# Altium schematic symbol library Schlib1.SchLib: 44 symbols (part 3 of 4)
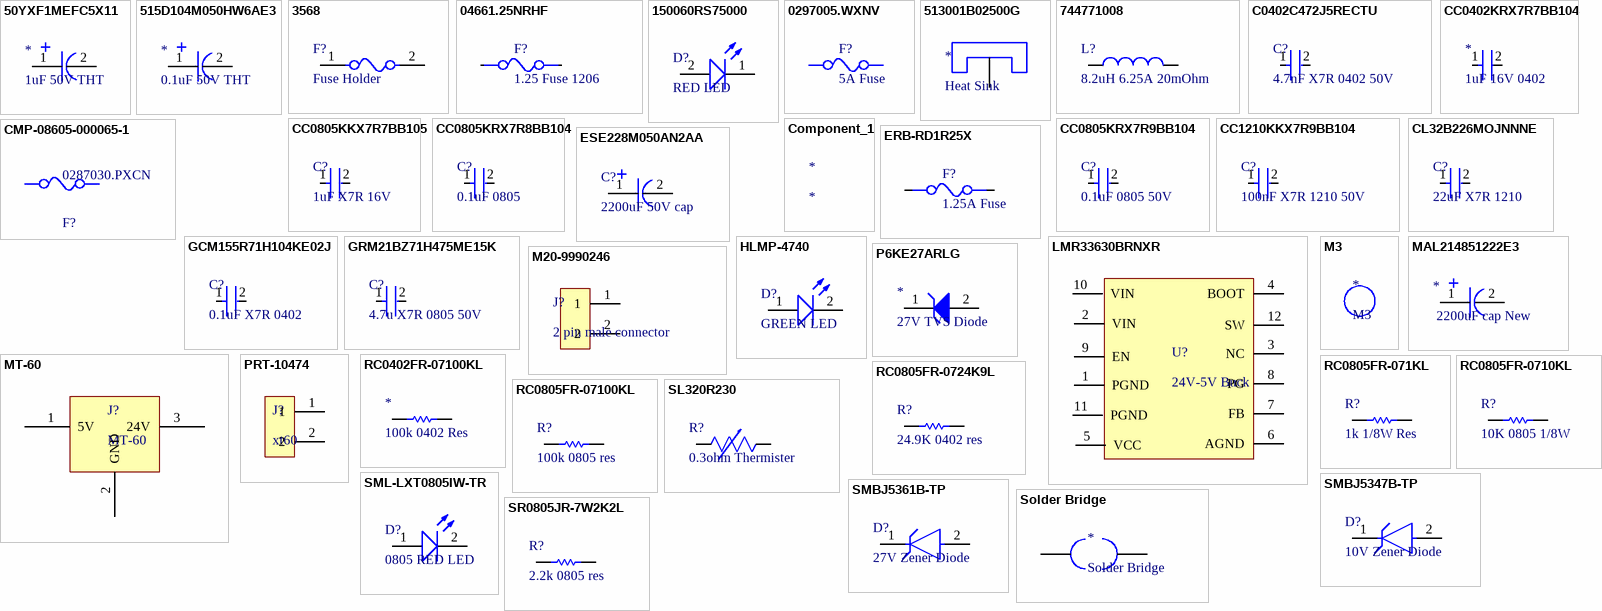
[diagram p3: symbols 50YXF1MEFC5X11 to SR0805JR-7W2K2L]

## MAL214851222E3
designator *, comment 2200uF cap New
Radial Can ALUMINUM ELECTROLYTIC CAPACITOR 148RUS 50V 2200muF ±20% 0.630Dia 16.00mm; Manufacturer: Vishay; Manufacturer Part Number: MAL214851222E3; Value: 2.2mF; Impedance: 39mΩ; Lead Diameter: 800µm; Leakage Current: 1.1mA; Life (Hours): 3000hours; Polarity: Polar; Ripple Current: 1.52A; Supplier: Avnet; Supplier Part Number: 40Y2495; RoHS: Compliant; Category: Aluminum Electrolytic Capacitors; Stock: 25; Pricing: 1=5.04, 10=3.42, 25=3.22, 50=3.02, 100=2.82 (USD); Case/Package: Radial; China RoHS: Compliant; Diameter: 16mm; Height: 31mm; Height - Seated (Max): 33.5026mm; Lead Pitch: 7.5mm; Length: 31mm; Lifecycle Status: Production; Max Operating Temperature: 105°C; Min Operating Temperature: -40°C; Mounting Technology: Through Hole; Number of Terminals: 2; Packaging: Bulk; Radiation Hardening: No; REACH SVHC: Yes; Terminal Pitch: 7.5mm; Termination: Radial; Tolerance: 20%; Voltage Rating: 50V; Voltage Rating (DC): 50V; ComponentLink1URL: https://datasheet.octopart.com:443/MAL214851222E3-Vishay-datasheet-159617121.pdf?src-supplier=IHS; ComponentLink1Description: https://datasheet.octopart.com:443/MAL214851222E3-Vishay-datasheet-159617121.pdf?src-supplier=IHS; ComponentLink2URL: https://datasheet.octopart.com:443/MAL214851222E3-Vishay-datasheet-62320647.pdf?src-supplier=Farnell; ComponentLink2Description: https://datasheet.octopart.com:443/MAL214851222E3-Vishay-datasheet-62320647.pdf?src-supplier=Farnell; ComponentLink3URL: https://datasheet.octopart.com:443/MAL214851222E3-Vishay-datasheet-37143530.pdf?src-supplier=Newark; ComponentLink3Description: https://datasheet.octopart.com:443/MAL214851222E3-Vishay-datasheet-37143530.pdf?src-supplier=Newark; ComponentLink4URL: http://sigma.octopart.com:80/rohs_statement/Vishay-company-15.pdf?src-supplier=Compliance+Statements; ComponentLink4Description: http://sigma.octopart.com:80/rohs_statement/Vishay-company-15.pdf?src-supplier=Compliance+Statements; LCSC Part No: C1601121
footprint Capacitor through hole
pins: 1, 2

## MT-60
designator J?
3pinPlug Power Connectors RoHS; LCSC part #: C99176
footprint MT-60
pins: 1 5V, 2 GND, 3 24V

## P6KE27ARLG
designator *, comment 27V TVS Diode
600 Watt SUR40 Transient Voltage Suppressor, 27 V, Unidirectional; Manufacturer: onsemi; Manufacturer Part Number: P6KE27ARLG; Breakdown Voltage: 27.05V; Clamping Voltage: 37.5V; Element Configuration: Single; Leakage Current: 5µA; Max Breakdown Voltage: 28.4V; Max Power Dissipation: 5W; Max Surge Current: 16A; Min Breakdown Voltage: 25.7V; Number of Channels: 1; Operating Supply Voltage: 23.1V; Peak Pulse Power: 600W; Power Line Protection: No; Test Current: 1mA; Supplier: Bison Technologies; Supplier Part Number: P6KE27ARLG-158866; RoHS: Compliant; Category: TVS Diodes; Stock: 5900; Pricing: 100=0.06, 1000=0.06, 10000=0.06 (USD); Case/Package: Axial; China RoHS: Non-Compliant; Composition: Zener; Contact Plating: Tin; Country of Origin: Mainland China; Direction: Unidirectional; Export Control Classification Number (ECCN) Code: EAR99; Harmonized Tariff Schedule (HTS) Code: 8541.10.00.50; Introduction Date: 1999-01-01; Lead Free: Lead Free; Max Operating Temperature: 150°C; Max Reverse Leakage Current: 5µA; Min Operating Temperature: -55°C; Number of Elements: 1; Pins: 2; Number of Terminals: 2; Number of Unidirectional Channels: 1; Packaging: Tape and Reel; Peak Pulse Current: 16A; Polarity: Unidirectional; Power Dissipation: 600W; Radiation Hardening: No; REACH SVHC: No; Reverse Breakdown Voltage: 25.7V; Reverse Standoff Voltage: 23.1V; Termination: Axial; ComponentLink1URL: https://datasheet.octopart.com:443/P6KE27ARLG-ON-Semiconductor-datasheet-8361193.pdf?src-supplier=IHS; ComponentLink1Description: https://datasheet.octopart.com:443/P6KE27ARLG-ON-Semiconductor-datasheet-8361193.pdf?src-supplier=IHS; ComponentLink2URL: https://datasheet.octopart.com:443/P6KE27ARLG-ON-Semiconductor-datasheet-5320614.pdf?src-supplier=onsemi; ComponentLink2Description: https://datasheet.octopart.com:443/P6KE27ARLG-ON-Semiconductor-datasheet-5320614.pdf?src-supplier=onsemi; ComponentLink3URL: https://datasheet.octopart.com:443/P6KE27ARLG-onsemi-datasheet-79626349.pdf?src-supplier=Farnell; ComponentLink3Description: https://datasheet.octopart.com:443/P6KE27ARLG-onsemi-datasheet-79626349.pdf?src-supplier=Farnell; ComponentLink4URL: http://sigma.octopart.com:80/reach_statement/ON-Semiconductor-company-79.pdf?src-supplier=Compliance+Statements; ComponentLink4Description: http://sigma.octopart.com:80/reach_statement/ON-Semiconductor-company-79.pdf?src-supplier=Compliance+Statements; ComponentLink5URL: https://octopart.com:443/opatz8j6/c1?t=2cJTaBfKdbaYfiIibkn32kFJN2rkQAxk7M-zdmCFLNYhDS4Q_M0VQkaOAo5Ijtsf6TEss0vlvxYVSuDQTRZP4OvQV2pXsbQ98v0s9K6hdiFStXveO6nhAUnzDXp5xHxKIFKd8f_nnKbZC-l5hdBFgFSLLzjiWU1mRDFWwLSmSyFNQzmDyJ0WyQpSZN_85hCm8lhg27LncNlkqwz2W0BQiMb47LSU24ywtnWJBrffDSUFoIOy5DRvi26unpeOfRJUZq5vb6J1HvpVsqMMnuUvQDgpfylJ3jskX1SzE2wqL06L0laSWrQj0crcyI1tb60BYAje57qsLb2d2LwrmFq9ygYxyN3BPTigX2aIOQ&src-supplier=Compliance+Statements; ComponentLink5Description: https://octopart.com:443/opatz8j6/c1?t=2cJTaBfKdbaYfiIibkn32kFJN2rkQAxk7M-zdmCFLNYhDS4Q_M0VQkaOAo5Ijtsf6TEss0vlvxYVSuDQTRZP4OvQV2pXsbQ98v0s9K6hdiFStXveO6nhAUnzDXp5xHxKIFKd8f_nnKbZC-l5hdBFgFSLLzjiWU1mRDFWwLSmSyFNQzmDyJ0WyQpSZN_85hCm8lhg27LncNlkqwz2W0BQiMb47LSU24ywtnWJBrffDSUFoIOy5DRvi26unpeOfRJUZq5vb6J1HvpVsqMMnuUvQDgpfylJ3jskX1SzE2wqL06L0laSWrQj0crcyI1tb60BYAje57qsLb2d2LwrmFq9ygYxyN3BPTigX2aIOQ&src-supplier=Compliance+Statements; LCSC Part No: C3707914
footprint 27V TVS Diode (AXIAL, 2-Leads, Diameter 3.49mm)
pins: 1 K, 2 A

## PRT-10474
designator J?, comment xt60
Conn DC Power Adapter M/F 2 POS ST 2 Terminal 1 Port; Manufacturer: SparkFun; Manufacturer Part Number: PRT-10474; Number of Contacts: 2; Supplier: Arrow Electronics; Supplier Part Number: PRT-10474; RoHS: Compliant; Category: Headers and Wire Housings; Pricing: 1=3.279 (USD); Number of Rows: 1; ComponentLink1URL: https://datasheet.octopart.com:443/PRT-10474-SparkFun-datasheet-154936240.pdf?src-supplier=Upverter; ComponentLink1Description: https://datasheet.octopart.com:443/PRT-10474-SparkFun-datasheet-154936240.pdf?src-supplier=Upverter
footprint XT60-M
pins: 1, 2

## RC0402FR-07100KL
designator *, comment 100k 0402 Res
62.5mW Thick Film Resistors 50V ±100ppm/℃ ±1% 100kΩ 0402 Chip Resistor - Surface Mount ROHS; Manufacturer: Yageo Group; Manufacturer Part Number: RC0402FR-07100KL; Max Power Dissipation: 63mW; Temperature Coefficient: 100ppm/°C; Supplier: Future Electronics; Supplier Part Number: RC0402FR-07100KL; RoHS: Compliant; Category: Chip SMD Resistors; Stock: 11900000; Pricing: 30000=0.0005, 150000=0.0005, 400000=0.0005, 1000000=0.0005, 2500000=0.0005 (USD); Case/Package: 0402; Case Code (Imperial): 0402; Case Code (Metric): 0402; China RoHS: Non-Compliant; Composition: Thick Film; Contact Plating: Tin; Depth: 500µm; Features: Moisture Resistant; Height: 350µm; Lead Free: Lead Free; Length: 1mm; Lifecycle Status: Production; Max Operating Temperature: 155°C; Military Standard: Not; Min Operating Temperature: -55°C; Mounting Technology: Surface Mount; Pins: 2; Number of Terminals: 2; Number of Terminations: 2; Packaging: Cut Tape (CT); Power Rating: 62.5mW; Radiation Hardening: No; REACH SVHC: Yes; Value: 100kΩ; Schedule B: 8533210045, 8533210045|8533210045, 8533210045|8533210045|8533210045, 8533210045|8533210045|8533210045|8533210045; Termination: SMD/SMT; Tolerance: 1%; Voltage Rating: 50V; Voltage Rating (AC): 50V; Voltage Rating (DC): 50V; Width: 500µm; Working Voltage: 50V; ComponentLink1URL: https://datasheet.octopart.com:443/RC0402FR-07100KL-Yageo-datasheet-175887523.pdf?src-supplier=Newark; ComponentLink1Description: https://datasheet.octopart.com:443/RC0402FR-07100KL-Yageo-datasheet-175887523.pdf?src-supplier=Newark; ComponentLink2URL: https://datasheet.octopart.com:443/RC0402FR-07100KL-Yageo-datasheet-10408619.pdf?src-supplier=Newark; ComponentLink2Description: https://datasheet.octopart.com:443/RC0402FR-07100KL-Yageo-datasheet-10408619.pdf?src-supplier=Newark; ComponentLink3URL: https://datasheet.octopart.com:443/RC0402FR-07100KL-Yageo-datasheet-8324527.pdf?src-supplier=Newark; ComponentLink3Description: https://datasheet.octopart.com:443/RC0402FR-07100KL-Yageo-datasheet-8324527.pdf?src-supplier=Newark; ComponentLink4URL: https://datasheet.octopart.com:443/RC0402FR-07100KL-Yageo-datasheet-103092701.pdf?src-supplier=Upverter; ComponentLink4Description: https://datasheet.octopart.com:443/RC0402FR-07100KL-Yageo-datasheet-103092701.pdf?src-supplier=Upverter; ComponentLink5URL: https://datasheet.octopart.com:443/RC0402FR-07100KL-Yageo-datasheet-141435361.pdf?src-supplier=Upverter; ComponentLink5Description: https://datasheet.octopart.com:443/RC0402FR-07100KL-Yageo-datasheet-141435361.pdf?src-supplier=Upverter; ComponentLink6URL: https://datasheet.octopart.com:443/RC0402FR-07100KL-Yageo-datasheet-62067350.pdf?src-supplier=Farnell; ComponentLink6Description: https://datasheet.octopart.com:443/RC0402FR-07100KL-Yageo-datasheet-62067350.pdf?src-supplier=Farnell; ComponentLink7URL: https://datasheet.octopart.com:443/RC0402FR-07100KL-Yageo-datasheet-12531192.pdf?src-supplier=Future+Electronics; ComponentLink7Description: https://datasheet.octopart.com:443/RC0402FR-07100KL-Yageo-datasheet-12531192.pdf?src-supplier=Future+Electronics; ComponentLink8URL: https://datasheet.octopart.com:443/RC0402FR-07100KL-Yageo-Group-datasheet-176638170.pdf?src-supplier=Future+Electronics; ComponentLink8Description: https://datasheet.octopart.com:443/RC0402FR-07100KL-Yageo-Group-datasheet-176638170.pdf?src-supplier=Future+Electronics; ComponentLink9URL: https://datasheet.octopart.com:443/RC0402FR-07100KL-Yageo-datasheet-164759695.pdf?src-supplier=Future+Electronics; ComponentLink9Description: https://datasheet.octopart.com:443/RC0402FR-07100KL-Yageo-datasheet-164759695.pdf?src-supplier=Future+Electronics; ComponentLink10URL: https://datasheet.octopart.com:443/RC0402FR-07100KL-Yageo-datasheet-127823281.pdf?src-supplier=Future+Electronics; ComponentLink10Description: https://datasheet.octopart.com:443/RC0402FR-07100KL-Yageo-datasheet-127823281.pdf?src-supplier=Future+Electronics; ComponentLink11URL: https://datasheet.octopart.com:443/RC0402FR-07100KL-Yageo-datasheet-137700087.pdf?src-supplier=Future+Electronics; ComponentLink11Description: https://datasheet.octopart.com:443/RC0402FR-07100KL-Yageo-datasheet-137700087.pdf?src-supplier=Future+Electronics; ComponentLink12URL: https://datasheet.octopart.com:443/RC0402FR-07100KL-Yageo-datasheet-98239111.pdf?src-supplier=Future+Electronics; ComponentLink12Description: https://datasheet.octopart.com:443/RC0402FR-07100KL-Yageo-datasheet-98239111.pdf?src-supplier=Future+Electronics; ComponentLink13URL: https://datasheet.octopart.com:443/RC0402FR-07100KL-Yageo-datasheet-77992522.pdf?src-supplier=Future+Electronics; ComponentLink13Description: https://datasheet.octopart.com:443/RC0402FR-07100KL-Yageo-datasheet-77992522.pdf?src-supplier=Future+Electronics; ComponentLink14URL: https://datasheet.octopart.com:443/RC0402FR-07100KL-Yageo-datasheet-67302840.pdf?src-supplier=Future+Electronics; ComponentLink14Description: https://datasheet.octopart.com:443/RC0402FR-07100KL-Yageo-datasheet-67302840.pdf?src-supplier=Future+Electronics; ComponentLink15URL: https://datasheet.octopart.com:443/RC0402FR-07100KL-Yageo-datasheet-8324255.pdf?src-supplier=Future+Electronics; ComponentLink15Description: https://datasheet.octopart.com:443/RC0402FR-07100KL-Yageo-datasheet-8324255.pdf?src-supplier=Future+Electronics; ComponentLink16URL: https://datasheet.octopart.com:443/RC0402FR-07100KL-Yageo-datasheet-8329306.pdf?src-supplier=element14; ComponentLink16Description: https://datasheet.octopart.com:443/RC0402FR-07100KL-Yageo-datasheet-8329306.pdf?src-supplier=element14; ComponentLink17URL: https://datasheet.octopart.com:443/RC0402FR-07100KL-Yageo-datasheet-175423674.pdf?src-supplier=SOS+electronic; ComponentLink17Description: https://datasheet.octopart.com:443/RC0402FR-07100KL-Yageo-datasheet-175423674.pdf?src-supplier=SOS+electronic; ComponentLink18URL: https://datasheet.octopart.com:443/RC0402FR-07100KL-Yageo-datasheet-148775077.pdf?src-supplier=TME; ComponentLink18Description: https://datasheet.octopart.com:443/RC0402FR-07100KL-Yageo-datasheet-148775077.pdf?src-supplier=TME; ComponentLink19URL: https://datasheet.octopart.com:443/RC0402FR-07100KL-Yageo-datasheet-79472498.pdf?src-supplier=Megastar; ComponentLink19Description: https://datasheet.octopart.com:443/RC0402FR-07100KL-Yageo-datasheet-79472498.pdf?src-supplier=Megastar; ComponentLink20URL: https://datasheet.octopart.com/RC0402FR-07100KL-Yageo-datasheet-73766026.pdf; ComponentLink20Description: https://datasheet.octopart.com/RC0402FR-07100KL-Yageo-datasheet-73766026.pdf; ComponentLink21URL: http://sigma.octopart.com:80/conflict_mineral_statement/Yageo-company-3.pdf?src-supplier=Compliance+Statements; ComponentLink21Description: http://sigma.octopart.com:80/conflict_mineral_statement/Yageo-company-3.pdf?src-supplier=Compliance+Statements; ComponentLink22URL: http://sigma.octopart.com:80/rohs_statement/Yageo-company-2.pdf?src-supplier=Compliance+Statements; ComponentLink22Description: http://sigma.octopart.com:80/rohs_statement/Yageo-company-2.pdf?src-supplier=Compliance+Statements; LCSC Part No: C60491
footprint 0402 resistor (Chip Resistor, 2-Leads, Body 1.00x0.50mm, IPC High Density)
pins: 1, 2

## RC0805FR-071KL
designator R?, comment 1k 1/8W Res
Yageo RC0805FR-071KL SMD Resistor 0603 1k Ohm ±1% Thick Film; Manufacturer: Yageo Group; Max Power Dissipation: 125mW; Value: 1kΩ; Temperature Coefficient: 100ppm/°C; Voltage Rating: 150V; Supplier: Future Electronics; Supplier Part Number: RC0805FR-071KL; Manufacturer Part Number: RC0805FR-071KL; RoHS: Compliant; Category: Chip SMD Resistors; Stock: 3035000; Pricing: 10000=0.0017, 50000=0.0017, 150000=0.0016, 375000=0.0016, 1000000=0.0015 (USD); Case/Package: 0805; Case Code (Imperial): 0805; China RoHS: Non-Compliant; Composition: Thick Film; Contact Plating: Tin; Country of Origin: Mainland China, Taiwan; Depth: 1.25mm; Export Control Classification Number (ECCN) Code: EAR99; Features: Moisture Resistant; Height: 500µm; Harmonized Tariff Schedule (HTS) Code: 8533.21.00.30; Introduction Date: 2004-09-22; Lead Free: Lead Free; Length: 2mm; Lifecycle Status: Production; Max Operating Temperature: 155°C; Military Standard: Not; Min Operating Temperature: -55°C; Mounting Technology: Surface Mount; Pins: 2; Number of Terminals: 2; Number of Terminations: 2; Packaging: Tape & Reel; Power Rating: 125mW; Radiation Hardening: No; REACH SVHC: Yes; Schedule B: 8533210045, 8533210045|8533210045, 8533210045|8533210045|8533210045, 8533210045|8533210045|8533210045|8533210045; Termination: SMD/SMT; Tolerance: 1%; Voltage Rating (AC): 150V; Voltage Rating (DC): 150V; Width: 1.25mm; Working Voltage: 150V; ComponentLink1URL: https://datasheet.octopart.com:443/RC0805FR-071KL-Yageo-datasheet-175887523.pdf?src-supplier=IHS; ComponentLink1Description: https://datasheet.octopart.com:443/RC0805FR-071KL-Yageo-datasheet-175887523.pdf?src-supplier=IHS; ComponentLink2URL: https://datasheet.octopart.com:443/RC0805FR-071KL-Yageo-datasheet-103092701.pdf?src-supplier=Upverter; ComponentLink2Description: https://datasheet.octopart.com:443/RC0805FR-071KL-Yageo-datasheet-103092701.pdf?src-supplier=Upverter; ComponentLink3URL: https://datasheet.octopart.com:443/RC0805FR-071KL-Yageo-datasheet-8330313.pdf?src-supplier=element14+APAC; ComponentLink3Description: https://datasheet.octopart.com:443/RC0805FR-071KL-Yageo-datasheet-8330313.pdf?src-supplier=element14+APAC; ComponentLink4URL: https://datasheet.octopart.com:443/RC0805FR-071KL-Yageo-datasheet-62067350.pdf?src-supplier=element14+APAC; ComponentLink4Description: https://datasheet.octopart.com:443/RC0805FR-071KL-Yageo-datasheet-62067350.pdf?src-supplier=element14+APAC; ComponentLink5URL: https://datasheet.octopart.com:443/RC0805FR-071KL-Yageo-datasheet-12592811.pdf?src-supplier=element14+APAC; ComponentLink5Description: https://datasheet.octopart.com:443/RC0805FR-071KL-Yageo-datasheet-12592811.pdf?src-supplier=element14+APAC; ComponentLink6URL: https://datasheet.octopart.com:443/RC0805FR-071KL-Yageo-Group-datasheet-190305687.pdf?src-supplier=Newark; ComponentLink6Description: https://datasheet.octopart.com:443/RC0805FR-071KL-Yageo-Group-datasheet-190305687.pdf?src-supplier=Newark; ComponentLink7URL: https://datasheet.octopart.com:443/RC0805FR-071KL-Yageo-Group-datasheet-176638170.pdf?src-supplier=Future+Electronics; ComponentLink7Description: https://datasheet.octopart.com:443/RC0805FR-071KL-Yageo-Group-datasheet-176638170.pdf?src-supplier=Future+Electronics; ComponentLink8URL: https://datasheet.octopart.com:443/RC0805FR-071KL-Yageo-datasheet-164759695.pdf?src-supplier=Future+Electronics; ComponentLink8Description: https://datasheet.octopart.com:443/RC0805FR-071KL-Yageo-datasheet-164759695.pdf?src-supplier=Future+Electronics; ComponentLink9URL: https://datasheet.octopart.com:443/RC0805FR-071KL-Yageo-datasheet-8324252.pdf?src-supplier=Future+Electronics; ComponentLink9Description: https://datasheet.octopart.com:443/RC0805FR-071KL-Yageo-datasheet-8324252.pdf?src-supplier=Future+Electronics; ComponentLink10URL: https://datasheet.octopart.com:443/RC0805FR-071KL-Yageo-datasheet-79472498.pdf?src-supplier=Megastar; ComponentLink10Description: https://datasheet.octopart.com:443/RC0805FR-071KL-Yageo-datasheet-79472498.pdf?src-supplier=Megastar; ComponentLink11URL: https://datasheet.octopart.com/RC0805FR-071KL-Yageo-datasheet-73766026.pdf; ComponentLink11Description: https://datasheet.octopart.com/RC0805FR-071KL-Yageo-datasheet-73766026.pdf; ComponentLink12URL: https://datasheet.octopart.com:443/RC0805FR-071KL-Yageo-datasheet-13691069.pdf?src-supplier=Farnell; ComponentLink12Description: https://datasheet.octopart.com:443/RC0805FR-071KL-Yageo-datasheet-13691069.pdf?src-supplier=Farnell; ComponentLink13URL: https://datasheet.octopart.com:443/RC0805FR-071KL-Yageo-datasheet-118657.pdf?src-supplier=DigiKey; ComponentLink13Description: https://datasheet.octopart.com:443/RC0805FR-071KL-Yageo-datasheet-118657.pdf?src-supplier=DigiKey; ComponentLink14URL: https://datasheet.octopart.com:443/RC0805FR-071KL-Yageo-datasheet-502840.pdf?src-supplier=element14; ComponentLink14Description: https://datasheet.octopart.com:443/RC0805FR-071KL-Yageo-datasheet-502840.pdf?src-supplier=element14; ComponentLink15URL: http://sigma.octopart.com:80/conflict_mineral_statement/Yageo-company-3.pdf?src-supplier=Compliance+Statements; ComponentLink15Description: http://sigma.octopart.com:80/conflict_mineral_statement/Yageo-company-3.pdf?src-supplier=Compliance+Statements; ComponentLink16URL: http://sigma.octopart.com:80/rohs_statement/Yageo-company-2.pdf?src-supplier=Compliance+Statements; ComponentLink16Description: http://sigma.octopart.com:80/rohs_statement/Yageo-company-2.pdf?src-supplier=Compliance+Statements; LCSC Part No: C95781
footprint 0805 1K Resistor (Chip Resistor, 2-Leads, Body 2.1x1.35mm, IPC Medium Density)
pins: 1, 2

## RC0805FR-0710KL
designator R?, comment 10K 0805 1/8W
Res General Purpose Thick Film 0805 10k Ohm 1% 1/8W ±100ppm/°C Ceramic Paper T/R; Manufacturer: Yageo Group; Manufacturer Part Number: RC0805FR-0710KL; Max Power Dissipation: 125mW; Value: 10kΩ; Voltage Rating: 150V; Supplier: Future Electronics; Supplier Part Number: RC0805FR-0710KL; RoHS: Compliant; Category: Chip SMD Resistors; Stock: 2395000; Pricing: 10000=0.0017, 50000=0.0017, 150000=0.0016, 375000=0.0016, 1000000=0.0015 (USD); Case/Package: 0805; Case Code (Imperial): 0805; China RoHS: Non-Compliant; Composition: Thick Film; Contact Plating: Tin; Country of Origin: Mainland China, Taiwan; Depth: 1.25mm; Export Control Classification Number (ECCN) Code: EAR99; Features: Moisture Resistant; Height: 500µm; Harmonized Tariff Schedule (HTS) Code: 8533.21.00.30; Introduction Date: 2004-09-22; Lead Free: Lead Free; Length: 2mm; Lifecycle Status: Production; Max Operating Temperature: 155°C; Military Standard: Not; Min Operating Temperature: -55°C; Mounting Technology: Surface Mount; Pins: 2; Number of Terminals: 2; Number of Terminations: 2; Packaging: Tape and Reel; Power Rating: 125mW; Radiation Hardening: No; REACH SVHC: Yes; Schedule B: 8533210045, 8533210045|8533210045|8533210045|8533210045|8533210045|8533210045|8533210045|8533210045|8533210045|8533210045|8533210045|8533210045|8533210045|8533210045|8533210045|8533210045|8533210045|8533210045|8533210045|8533210045|8533210045|8533210045|8533210045|85; Temperature Coefficient: 100ppm/°C; Termination: SMD/SMT; Tolerance: 1%; Voltage Rating (AC): 150V; Voltage Rating (DC): 150V; Width: 1.25mm; Working Voltage: 150V; ComponentLink1URL: https://datasheet.octopart.com:443/RC0805FR-0710KL-Yageo-datasheet-175887523.pdf?src-supplier=Newark; ComponentLink1Description: https://datasheet.octopart.com:443/RC0805FR-0710KL-Yageo-datasheet-175887523.pdf?src-supplier=Newark; ComponentLink2URL: https://datasheet.octopart.com:443/RC0805FR-0710KL-Yageo-datasheet-62067350.pdf?src-supplier=Farnell; ComponentLink2Description: https://datasheet.octopart.com:443/RC0805FR-0710KL-Yageo-datasheet-62067350.pdf?src-supplier=Farnell; ComponentLink3URL: https://datasheet.octopart.com:443/RC0805FR-0710KL-Yageo-datasheet-13691069.pdf?src-supplier=Farnell; ComponentLink3Description: https://datasheet.octopart.com:443/RC0805FR-0710KL-Yageo-datasheet-13691069.pdf?src-supplier=Farnell; ComponentLink4URL: https://datasheet.octopart.com:443/RC0805FR-0710KL-Yageo-datasheet-103092701.pdf?src-supplier=Upverter; ComponentLink4Description: https://datasheet.octopart.com:443/RC0805FR-0710KL-Yageo-datasheet-103092701.pdf?src-supplier=Upverter; ComponentLink5URL: https://datasheet.octopart.com:443/RC0805FR-0710KL-Yageo-datasheet-98239111.pdf?src-supplier=Upverter; ComponentLink5Description: https://datasheet.octopart.com:443/RC0805FR-0710KL-Yageo-datasheet-98239111.pdf?src-supplier=Upverter; ComponentLink6URL: https://datasheet.octopart.com:443/RC0805FR-0710KL-Yageo---Phycomp-datasheet-67302840.pdf?src-supplier=Upverter; ComponentLink6Description: https://datasheet.octopart.com:443/RC0805FR-0710KL-Yageo---Phycomp-datasheet-67302840.pdf?src-supplier=Upverter; ComponentLink7URL: https://datasheet.octopart.com:443/RC0805FR-0710KL-Yageo-datasheet-8330313.pdf?src-supplier=element14+APAC; ComponentLink7Description: https://datasheet.octopart.com:443/RC0805FR-0710KL-Yageo-datasheet-8330313.pdf?src-supplier=element14+APAC; ComponentLink8URL: https://datasheet.octopart.com:443/RC0805FR-0710KL-Yageo-datasheet-12592811.pdf?src-supplier=element14+APAC; ComponentLink8Description: https://datasheet.octopart.com:443/RC0805FR-0710KL-Yageo-datasheet-12592811.pdf?src-supplier=element14+APAC; ComponentLink9URL: https://datasheet.octopart.com:443/RC0805FR-0710KL-Yageo-Group-datasheet-190305687.pdf?src-supplier=Future+Electronics; ComponentLink9Description: https://datasheet.octopart.com:443/RC0805FR-0710KL-Yageo-Group-datasheet-190305687.pdf?src-supplier=Future+Electronics; ComponentLink10URL: https://datasheet.octopart.com:443/RC0805FR-0710KL-Yageo-datasheet-164759695.pdf?src-supplier=Future+Electronics; ComponentLink10Description: https://datasheet.octopart.com:443/RC0805FR-0710KL-Yageo-datasheet-164759695.pdf?src-supplier=Future+Electronics; ComponentLink11URL: https://datasheet.octopart.com:443/RC0805FR-0710KL-Yageo-datasheet-15800360.pdf?src-supplier=Future+Electronics; ComponentLink11Description: https://datasheet.octopart.com:443/RC0805FR-0710KL-Yageo-datasheet-15800360.pdf?src-supplier=Future+Electronics; ComponentLink12URL: https://datasheet.octopart.com:443/RC0805FR-0710KL-Yageo-datasheet-8324252.pdf?src-supplier=Future+Electronics; ComponentLink12Description: https://datasheet.octopart.com:443/RC0805FR-0710KL-Yageo-datasheet-8324252.pdf?src-supplier=Future+Electronics; ComponentLink13URL: https://datasheet.octopart.com:443/RC0805FR-0710KL-Yageo-datasheet-79472498.pdf?src-supplier=Megastar; ComponentLink13Description: https://datasheet.octopart.com:443/RC0805FR-0710KL-Yageo-datasheet-79472498.pdf?src-supplier=Megastar; ComponentLink14URL: https://datasheet.octopart.com:443/RC0805FR-0710KL-Yageo-datasheet-27714392.pdf?src-supplier=Seeed+Studio; ComponentLink14Description: https://datasheet.octopart.com:443/RC0805FR-0710KL-Yageo-datasheet-27714392.pdf?src-supplier=Seeed+Studio; ComponentLink15URL: https://datasheet.octopart.com/RC0805FR-0710KL-Yageo-datasheet-73766026.pdf; ComponentLink15Description: https://datasheet.octopart.com/RC0805FR-0710KL-Yageo-datasheet-73766026.pdf; ComponentLink16URL: https://datasheet.octopart.com:443/RC0805FR-0710KL-Yageo-datasheet-118657.pdf?src-supplier=DigiKey; ComponentLink16Description: https://datasheet.octopart.com:443/RC0805FR-0710KL-Yageo-datasheet-118657.pdf?src-supplier=DigiKey; ComponentLink17URL: https://datasheet.octopart.com:443/RC0805FR-0710KL-Yageo-datasheet-502840.pdf?src-supplier=element14; ComponentLink17Description: https://datasheet.octopart.com:443/RC0805FR-0710KL-Yageo-datasheet-502840.pdf?src-supplier=element14; ComponentLink18URL: http://sigma.octopart.com:80/conflict_mineral_statement/Yageo-company-3.pdf?src-supplier=Compliance+Statements; ComponentLink18Description: http://sigma.octopart.com:80/conflict_mineral_statement/Yageo-company-3.pdf?src-supplier=Compliance+Statements; ComponentLink19URL: http://sigma.octopart.com:80/rohs_statement/Yageo-company-2.pdf?src-supplier=Compliance+Statements; ComponentLink19Description: http://sigma.octopart.com:80/rohs_statement/Yageo-company-2.pdf?src-supplier=Compliance+Statements; LCSC Part No: C84376
footprint 0805 1K Resistor (Chip Resistor, 2-Leads, Body 2.1x1.35mm, IPC Medium Density)
pins: 1, 2

## RC0805FR-0724K9L
designator R?, comment 24.9K 0402 res
Res Thick Film 0402 24.9K Ohm 1% 0.063W(1/16W) ±100ppm/C Pad SMD T/R; Manufacturer: Yageo Group; Manufacturer Part Number: RC0805FR-0724K9L; Power Rating: 125mW; Value: 24.9kΩ; Temperature Coefficient: 100ppm/°C; Voltage Rating: 150V; Max Power Dissipation: 63mW; Voltage Rating (DC): 50V; Supplier: Future Electronics; Supplier Part Number: RC0805FR-0724K9L; RoHS: Compliant; Category: Chip SMD Resistors; Stock: 5000; Pricing: 15000=0.0017, 75000=0.0016, 150000=0.0016, 500000=0.0015, 1000000=0.0015 (USD); Case/Package: 0805; Case Code (Imperial): 0805; China RoHS: Non-Compliant; Composition: Thick Film; Depth: 1.25mm; Height: 500µm; Lead Free: Lead Free; Length: 2mm; Lifecycle Status: Production; Max Operating Temperature: 155°C; Manufacturer Package Identifier: RC0805FR-0724K9L; Military Standard: Not; Min Operating Temperature: -55°C; Mounting Technology: Surface Mount; Number of Terminals: 2; Packaging: Tape & Reel; REACH SVHC: Yes; Schedule B: 8533210045, 8533210045|8533210045, 8533210045|8533210045|8533210045, 8533210045|8533210045|8533210045|8533210045; Termination: SMD/SMT; Tolerance: 1%; Width: 1.25mm; Working Voltage: 150V; ComponentLink1URL: https://datasheet.octopart.com:443/RC0805FR-0724K9L-Yageo-datasheet-175887523.pdf?src-supplier=IHS; ComponentLink1Description: https://datasheet.octopart.com:443/RC0805FR-0724K9L-Yageo-datasheet-175887523.pdf?src-supplier=IHS; ComponentLink2URL: https://datasheet.octopart.com:443/RC0805FR-0724K9L-Yageo-datasheet-103092701.pdf?src-supplier=Upverter; ComponentLink2Description: https://datasheet.octopart.com:443/RC0805FR-0724K9L-Yageo-datasheet-103092701.pdf?src-supplier=Upverter; ComponentLink3URL: https://datasheet.octopart.com:443/RC0805FR-0724K9L-Yageo-Group-datasheet-189192902.pdf?src-supplier=TME; ComponentLink3Description: https://datasheet.octopart.com:443/RC0805FR-0724K9L-Yageo-Group-datasheet-189192902.pdf?src-supplier=TME; ComponentLink4URL: https://datasheet.octopart.com:443/RC0805FR-0724K9L-Yageo-Group-datasheet-176638170.pdf?src-supplier=Future+Electronics; ComponentLink4Description: https://datasheet.octopart.com:443/RC0805FR-0724K9L-Yageo-Group-datasheet-176638170.pdf?src-supplier=Future+Electronics; ComponentLink5URL: https://datasheet.octopart.com:443/RC0805FR-0724K9L-Yageo-datasheet-164759695.pdf?src-supplier=Future+Electronics; ComponentLink5Description: https://datasheet.octopart.com:443/RC0805FR-0724K9L-Yageo-datasheet-164759695.pdf?src-supplier=Future+Electronics; ComponentLink6URL: https://datasheet.octopart.com:443/RC0805FR-0724K9L-Yageo-datasheet-12592811.pdf?src-supplier=Future+Electronics; ComponentLink6Description: https://datasheet.octopart.com:443/RC0805FR-0724K9L-Yageo-datasheet-12592811.pdf?src-supplier=Future+Electronics; ComponentLink7URL: https://datasheet.octopart.com:443/RC0805FR-0724K9L-Yageo-datasheet-8330313.pdf?src-supplier=Future+Electronics; ComponentLink7Description: https://datasheet.octopart.com:443/RC0805FR-0724K9L-Yageo-datasheet-8330313.pdf?src-supplier=Future+Electronics; ComponentLink8URL: https://datasheet.octopart.com:443/RC0805FR-0724K9L-Yageo-datasheet-8324252.pdf?src-supplier=Future+Electronics; ComponentLink8Description: https://datasheet.octopart.com:443/RC0805FR-0724K9L-Yageo-datasheet-8324252.pdf?src-supplier=Future+Electronics; ComponentLink9URL: https://datasheet.octopart.com/RC0805FR-0724K9L-Yageo-datasheet-73766026.pdf; ComponentLink9Description: https://datasheet.octopart.com/RC0805FR-0724K9L-Yageo-datasheet-73766026.pdf; ComponentLink10URL: https://datasheet.octopart.com:443/RC0805FR-0724K9L-Yageo-datasheet-118657.pdf?src-supplier=DigiKey; ComponentLink10Description: https://datasheet.octopart.com:443/RC0805FR-0724K9L-Yageo-datasheet-118657.pdf?src-supplier=DigiKey; ComponentLink11URL: http://sigma.octopart.com:80/conflict_mineral_statement/Yageo-company-3.pdf?src-supplier=Compliance+Statements; ComponentLink11Description: http://sigma.octopart.com:80/conflict_mineral_statement/Yageo-company-3.pdf?src-supplier=Compliance+Statements; ComponentLink12URL: http://sigma.octopart.com:80/rohs_statement/Yageo-company-2.pdf?src-supplier=Compliance+Statements; ComponentLink12Description: http://sigma.octopart.com:80/rohs_statement/Yageo-company-2.pdf?src-supplier=Compliance+Statements; LCSC Part No: C155691; Contact Plating: Tin; Features: Moisture Resistant; Number of Terminations: 2; ComponentLink13URL: https://datasheet.octopart.com:443/RC0402FR-0724K9L-Yageo-datasheet-175887523.pdf?src-supplier=IHS; ComponentLink13Description: https://datasheet.octopart.com:443/RC0402FR-0724K9L-Yageo-datasheet-175887523.pdf?src-supplier=IHS; ComponentLink14URL: https://datasheet.octopart.com:443/RC0402FR-0724K9L-Yageo-datasheet-103092701.pdf?src-supplier=Upverter; ComponentLink14Description: https://datasheet.octopart.com:443/RC0402FR-0724K9L-Yageo-datasheet-103092701.pdf?src-supplier=Upverter; ComponentLink15URL: https://datasheet.octopart.com:443/RC0402FR-0724K9L-Yageo-datasheet-98239111.pdf?src-supplier=Upverter; ComponentLink15Description: https://datasheet.octopart.com:443/RC0402FR-0724K9L-Yageo-datasheet-98239111.pdf?src-supplier=Upverter; ComponentLink16URL: https://datasheet.octopart.com:443/RC0402FR-0724K9L-Yageo-datasheet-10408619.pdf?src-supplier=Newark; ComponentLink16Description: https://datasheet.octopart.com:443/RC0402FR-0724K9L-Yageo-datasheet-10408619.pdf?src-supplier=Newark; ComponentLink17URL: https://datasheet.octopart.com:443/RC0402FR-0724K9L-Yageo-datasheet-62067350.pdf?src-supplier=Newark; ComponentLink17Description: https://datasheet.octopart.com:443/RC0402FR-0724K9L-Yageo-datasheet-62067350.pdf?src-supplier=Newark; ComponentLink18URL: https://datasheet.octopart.com:443/RC0402FR-0724K9L-Yageo-Group-datasheet-176638170.pdf?src-supplier=Future+Electronics; ComponentLink18Description: https://datasheet.octopart.com:443/RC0402FR-0724K9L-Yageo-Group-datasheet-176638170.pdf?src-supplier=Future+Electronics; ComponentLink19URL: https://datasheet.octopart.com:443/RC0402FR-0724K9L-Yageo-datasheet-164759695.pdf?src-supplier=Future+Electronics; ComponentLink19Description: https://datasheet.octopart.com:443/RC0402FR-0724K9L-Yageo-datasheet-164759695.pdf?src-supplier=Future+Electronics; ComponentLink20URL: https://datasheet.octopart.com:443/RC0402FR-0724K9L-Yageo-datasheet-137700087.pdf?src-supplier=Future+Electronics; ComponentLink20Description: https://datasheet.octopart.com:443/RC0402FR-0724K9L-Yageo-datasheet-137700087.pdf?src-supplier=Future+Electronics; ComponentLink21URL: https://datasheet.octopart.com:443/RC0402FR-0724K9L-Yageo-datasheet-12531192.pdf?src-supplier=Future+Electronics; ComponentLink21Description: https://datasheet.octopart.com:443/RC0402FR-0724K9L-Yageo-datasheet-12531192.pdf?src-supplier=Future+Electronics; ComponentLink22URL: https://datasheet.octopart.com:443/RC0402FR-0724K9L-Yageo-datasheet-8324255.pdf?src-supplier=Future+Electronics; ComponentLink22Description: https://datasheet.octopart.com:443/RC0402FR-0724K9L-Yageo-datasheet-8324255.pdf?src-supplier=Future+Electronics; ComponentLink23URL: https://datasheet.octopart.com:443/RC0402FR-0724K9L-Yageo-Group-datasheet-190382422.pdf?src-supplier=Farnell; ComponentLink23Description: https://datasheet.octopart.com:443/RC0402FR-0724K9L-Yageo-Group-datasheet-190382422.pdf?src-supplier=Farnell; ComponentLink24URL: https://datasheet.octopart.com:443/RC0402FR-0724K9L-Yageo-datasheet-148775077.pdf?src-supplier=TME; ComponentLink24Description: https://datasheet.octopart.com:443/RC0402FR-0724K9L-Yageo-datasheet-148775077.pdf?src-supplier=TME; ComponentLink25URL: https://datasheet.octopart.com/RC0402FR-0724K9L-Yageo-datasheet-73766026.pdf; ComponentLink25Description: https://datasheet.octopart.com/RC0402FR-0724K9L-Yageo-datasheet-73766026.pdf
footprint 0402 resistor (Chip Resistor, 2-Leads, Body 1.00x0.50mm, IPC High Density)
pins: 1, 2

## RC0805FR-07100KL
designator R?, comment 100k 0805 res
125Mw Thick Film Resistors 100Ppm/ 1% 100K 0805 Chip Resistor Surface Mount Rohs; Manufacturer: Yageo Group; Manufacturer Part Number: RC0805FR-07100KL; Value: 100kΩ; Temperature Coefficient: 100ppm/°C; Voltage Rating: 150V; Supplier: Future Electronics; Supplier Part Number: RC0805FR-07100KL; RoHS: Compliant; Category: Chip SMD Resistors; Stock: 2320000; Pricing: 10000=0.0017, 50000=0.0017, 150000=0.0016, 375000=0.0016, 1000000=0.0015 (USD); Case/Package: 0805; Case Code (Imperial): 0805; China RoHS: Non-Compliant; Composition: Thick Film; Contact Plating: Tin; Country of Origin: Mainland China, Taiwan; Depth: 1.25mm; Export Control Classification Number (ECCN) Code: EAR99; Features: Moisture Resistant; Height: 500µm; Harmonized Tariff Schedule (HTS) Code: 8533.21.00.30; Introduction Date: 2004-09-22; Lead Free: Lead Free; Lead Pitch: 400µm; Length: 2mm; Lifecycle Status: Production; Max Operating Temperature: 155°C; Max Power Dissipation: 125mW; Military Standard: Not; Min Operating Temperature: -55°C; Mounting Technology: Surface Mount; Pins: 2; Number of Terminals: 2; Number of Terminations: 2; Packaging: Tape & Reel; Power Rating: 125mW; Radiation Hardening: No; REACH SVHC: Yes; Schedule B: 8533210045, 8533210045|8533210045, 8533210045|8533210045|8533210045, 8533210045|8533210045|8533210045|8533210045; Termination: SMD/SMT; Tolerance: 1%; Voltage Rating (AC): 150V; Voltage Rating (DC): 150V; Width: 1.25mm; Working Voltage: 150V; ComponentLink1URL: https://datasheet.octopart.com:443/RC0805FR-07100KL-Yageo-datasheet-175887523.pdf?src-supplier=Newark; ComponentLink1Description: https://datasheet.octopart.com:443/RC0805FR-07100KL-Yageo-datasheet-175887523.pdf?src-supplier=Newark; ComponentLink2URL: https://datasheet.octopart.com:443/RC0805FR-07100KL-Yageo-datasheet-164759695.pdf?src-supplier=Upverter; ComponentLink2Description: https://datasheet.octopart.com:443/RC0805FR-07100KL-Yageo-datasheet-164759695.pdf?src-supplier=Upverter; ComponentLink3URL: https://datasheet.octopart.com:443/RC0805FR-07100KL-Yageo-datasheet-103092701.pdf?src-supplier=Upverter; ComponentLink3Description: https://datasheet.octopart.com:443/RC0805FR-07100KL-Yageo-datasheet-103092701.pdf?src-supplier=Upverter; ComponentLink4URL: https://sigma.octopart.com:443/138820526/technical_drawing/Yageo-RC0805FR-07100KL.pdf?src-supplier=Upverter; ComponentLink4Description: https://sigma.octopart.com:443/138820526/technical_drawing/Yageo-RC0805FR-07100KL.pdf?src-supplier=Upverter; ComponentLink5URL: https://datasheet.octopart.com:443/RC0805FR-07100KL-Yageo-datasheet-118657.pdf?src-supplier=DigiKey; ComponentLink5Description: https://datasheet.octopart.com:443/RC0805FR-07100KL-Yageo-datasheet-118657.pdf?src-supplier=DigiKey; ComponentLink6URL: https://datasheet.octopart.com:443/RC0805FR-07100KL-Yageo-datasheet-8330313.pdf?src-supplier=element14+APAC; ComponentLink6Description: https://datasheet.octopart.com:443/RC0805FR-07100KL-Yageo-datasheet-8330313.pdf?src-supplier=element14+APAC; ComponentLink7URL: https://datasheet.octopart.com:443/RC0805FR-07100KL-Yageo-datasheet-12592811.pdf?src-supplier=element14+APAC; ComponentLink7Description: https://datasheet.octopart.com:443/RC0805FR-07100KL-Yageo-datasheet-12592811.pdf?src-supplier=element14+APAC; ComponentLink8URL: https://datasheet.octopart.com:443/RC0805FR-07100KL-Yageo-Group-datasheet-190305687.pdf?src-supplier=Future+Electronics; ComponentLink8Description: https://datasheet.octopart.com:443/RC0805FR-07100KL-Yageo-Group-datasheet-190305687.pdf?src-supplier=Future+Electronics; ComponentLink9URL: https://datasheet.octopart.com:443/RC0805FR-07100KL-Yageo-datasheet-127823281.pdf?src-supplier=Future+Electronics; ComponentLink9Description: https://datasheet.octopart.com:443/RC0805FR-07100KL-Yageo-datasheet-127823281.pdf?src-supplier=Future+Electronics; ComponentLink10URL: https://datasheet.octopart.com:443/RC0805FR-07100KL-Yageo-datasheet-137700087.pdf?src-supplier=Future+Electronics; ComponentLink10Description: https://datasheet.octopart.com:443/RC0805FR-07100KL-Yageo-datasheet-137700087.pdf?src-supplier=Future+Electronics; ComponentLink11URL: https://datasheet.octopart.com:443/RC0805FR-07100KL-Yageo-datasheet-77992522.pdf?src-supplier=Future+Electronics; ComponentLink11Description: https://datasheet.octopart.com:443/RC0805FR-07100KL-Yageo-datasheet-77992522.pdf?src-supplier=Future+Electronics; ComponentLink12URL: https://datasheet.octopart.com:443/RC0805FR-07100KL-Yageo-datasheet-80324437.pdf?src-supplier=Future+Electronics; ComponentLink12Description: https://datasheet.octopart.com:443/RC0805FR-07100KL-Yageo-datasheet-80324437.pdf?src-supplier=Future+Electronics; ComponentLink13URL: https://datasheet.octopart.com:443/RC0805FR-07100KL-Yageo-datasheet-67302840.pdf?src-supplier=Future+Electronics; ComponentLink13Description: https://datasheet.octopart.com:443/RC0805FR-07100KL-Yageo-datasheet-67302840.pdf?src-supplier=Future+Electronics; ComponentLink14URL: https://datasheet.octopart.com:443/RC0805FR-07100KL-Yageo-datasheet-8324252.pdf?src-supplier=Future+Electronics; ComponentLink14Description: https://datasheet.octopart.com:443/RC0805FR-07100KL-Yageo-datasheet-8324252.pdf?src-supplier=Future+Electronics; ComponentLink15URL: https://datasheet.octopart.com:443/RC0805FR-07100KL-Yageo-datasheet-62067350.pdf?src-supplier=Farnell; ComponentLink15Description: https://datasheet.octopart.com:443/RC0805FR-07100KL-Yageo-datasheet-62067350.pdf?src-supplier=Farnell; ComponentLink16URL: https://datasheet.octopart.com:443/RC0805FR-07100KL-Yageo-datasheet-13691069.pdf?src-supplier=Farnell; ComponentLink16Description: https://datasheet.octopart.com:443/RC0805FR-07100KL-Yageo-datasheet-13691069.pdf?src-supplier=Farnell; ComponentLink17URL: https://datasheet.octopart.com:443/RC0805FR-07100KL-Yageo-datasheet-79472498.pdf?src-supplier=Megastar; ComponentLink17Description: https://datasheet.octopart.com:443/RC0805FR-07100KL-Yageo-datasheet-79472498.pdf?src-supplier=Megastar; ComponentLink18URL: https://datasheet.octopart.com:443/RC0805FR-07100KL-Yageo-datasheet-27714392.pdf?src-supplier=Seeed+Studio; ComponentLink18Description: https://datasheet.octopart.com:443/RC0805FR-07100KL-Yageo-datasheet-27714392.pdf?src-supplier=Seeed+Studio; ComponentLink19URL: https://datasheet.octopart.com/RC0805FR-07100KL-Yageo-datasheet-73766026.pdf; ComponentLink19Description: https://datasheet.octopart.com/RC0805FR-07100KL-Yageo-datasheet-73766026.pdf; ComponentLink20URL: https://datasheet.octopart.com:443/RC0805FR-07100KL-Yageo-datasheet-502840.pdf?src-supplier=element14; ComponentLink20Description: https://datasheet.octopart.com:443/RC0805FR-07100KL-Yageo-datasheet-502840.pdf?src-supplier=element14; ComponentLink21URL: http://sigma.octopart.com:80/conflict_mineral_statement/Yageo-company-3.pdf?src-supplier=Compliance+Statements; ComponentLink21Description: http://sigma.octopart.com:80/conflict_mineral_statement/Yageo-company-3.pdf?src-supplier=Compliance+Statements; ComponentLink22URL: http://sigma.octopart.com:80/rohs_statement/Yageo-company-2.pdf?src-supplier=Compliance+Statements; ComponentLink22Description: http://sigma.octopart.com:80/rohs_statement/Yageo-company-2.pdf?src-supplier=Compliance+Statements; LCSC Part No: C96346
footprint 0805 1K Resistor (Chip Resistor, 2-Leads, Body 2.1x1.35mm, IPC Medium Density)
pins: 1, 2

## SL320R230
designator R?, comment 0.3ohm Thermister
NTC Thermistor, 0.3ohm, Through Hole Mount; Manufacturer: Vishay; Manufacturer Part Number: SL320R230; Current Rating: 30A; Dissipation Factor: 45.4%; Lead Diameter: 1mm; Ratings: CSA; Value: 300mΩ; Tolerance: 25%; Supplier: DigiKey; Supplier Part Number: 570-SL320R230-ND; RoHS: Compliant; Category: Resistors; Stock: 164; Pricing: 1=9.59, 5=7.958, 10=7.344, 50=6.0892, 100=5.6147, 250=5.0404, 500=4.64248, 1000=4.27324 (USD); Country of Origin: USA; Diameter: 31mm; Export Control Classification Number (ECCN) Code: EAR99; Height: 31mm; Harmonized Tariff Schedule (HTS) Code: 8533.40.80.70; Introduction Date: 2025-08-07; Lead Pitch: 7.8mm; Length: 31mm; Lifecycle Status: Production; Max Operating Temperature: 150°C; Min Operating Temperature: -40°C; Number of Terminals: 2; Packaging: Bulk; REACH SVHC: No; Width: 6mm; ComponentLink1URL: https://datasheet.octopart.com:443/SL320R230-Vishay-datasheet-189867316.pdf?src-supplier=Vishay; ComponentLink1Description: https://datasheet.octopart.com:443/SL320R230-Vishay-datasheet-189867316.pdf?src-supplier=Vishay; ComponentLink2URL: https://datasheet.octopart.com:443/SL320R230-Ametherm-datasheet-182141257.pdf?src-supplier=Sager+Electronics; ComponentLink2Description: https://datasheet.octopart.com:443/SL320R230-Ametherm-datasheet-182141257.pdf?src-supplier=Sager+Electronics; ComponentLink3URL: http://sigma.octopart.com:80/rohs_statement/Vishay-company-15.pdf?src-supplier=Compliance+Statements; ComponentLink3Description: http://sigma.octopart.com:80/rohs_statement/Vishay-company-15.pdf?src-supplier=Compliance+Statements; LCSC Part No: C3761746
footprint thermistor
pins: 1, 2

## SMBJ5347B-TP
designator D?, comment 10V Zener Diode
Zener Diode Independent 10V 5W Surface Mount SMB(DO-214AA; Manufacturer: MCC; Manufacturer Part Number: 3SMBJ5925B-TP; Element Configuration: Single; Forward Current: 200mA; Forward Voltage: 1.5V; Impedance: 4.5Ω; Max Power Dissipation: 3W; Max Reverse Leakage Current: 5µA; Number of Elements: 1; Peak Reverse Current: 5nA; Polarity: Unidirectional; Test Current: 37.5mA; Tolerance: 5%; Supplier: DigiKey; Supplier Part Number: 3SMBJ5925B-TPMSCT-ND; RoHS: Compliant; Category: Zener Diodes; Stock: 312932; Pricing: 1=0.49, 10=0.301, 100=0.1903, 500=0.14234, 1000=0.12681 (USD); China RoHS: Non-Compliant; Composition: Zener; Country of Origin: Mainland China, Vietnam; Export Control Classification Number (ECCN) Code: EAR99; Height: 2.44mm; Harmonized Tariff Schedule (HTS) Code: 8541.10.00.50; Introduction Date: 2007-02-15; Length: 4.7mm; Lifecycle Status: Production; Max Operating Temperature: 150°C; Min Operating Temperature: -55°C; Mounting Technology: Surface Mount; Pins: 2; Number of Terminals: 2; Power Dissipation: 3W; REACH SVHC: No; Reference Voltage: 10V; Voltage Tolerance: 5%; Width: 3.94mm; Zener Current: 37.5mA; Zener Voltage: 10V; ComponentLink1URL: https://datasheet.octopart.com:443/3SMBJ5925B-TP-MCC-datasheet-188909281.pdf?src-supplier=TME; ComponentLink1Description: https://datasheet.octopart.com:443/3SMBJ5925B-TP-MCC-datasheet-188909281.pdf?src-supplier=TME; ComponentLink2URL: https://datasheet.octopart.com:443/3SMBJ5925B-TP-MCC-datasheet-9573749.pdf?src-supplier=RS+(Formerly+Allied+Electronics); ComponentLink2Description: https://datasheet.octopart.com:443/3SMBJ5925B-TP-MCC-datasheet-9573749.pdf?src-supplier=RS+(Formerly+Allied+Electronics); LCSC Part No: C151743
footprint 27V Zener diode
pins: 1 C, 2 A

## SMBJ5361B-TP
designator D?, comment 27V Zener Diode
Zener Diode, 27V, 5W, Do-214Aa Rohs Compliant: Yes |Micro Commercial Components SMBJ5361B-TP; Manufacturer: MCC; Element Configuration: Single; Forward Voltage: 1.2V; Impedance: 5Ω; Max Junction Temperature (Tj): 150°C; Max Reverse Leakage Current: 500nA; Number of Elements: 1; Peak Reverse Current: 500pA; Polarity: Unidirectional; Reverse Voltage: 20.6V; Test Current: 50mA; Tolerance: 5%; Supplier: Arrow Electronics; Supplier Part Number: SMBJ5361B-TP; Manufacturer Part Number: SMBJ5361B-TP; RoHS: Compliant; Category: Zener Diodes; Stock: 5; Pricing: 1=0.1196 (USD); Case/Package: SMB; China RoHS: Non-Compliant; Composition: Zener; Country of Origin: Mainland China, Vietnam; Export Control Classification Number (ECCN) Code: EAR99; Height: 2.82mm; Harmonized Tariff Schedule (HTS) Code: 8541.10.00.50; Introduction Date: 2002-04-11; Lead Free: Lead Free; Lifecycle Status: Production; Max Operating Temperature: 150°C; Max Power Dissipation: 5W; Min Operating Temperature: -55°C; Mounting Technology: Surface Mount; Pins: 2; Number of Terminals: 2; Power Dissipation: 5W; Radiation Hardening: No; REACH SVHC: No; Reference Voltage: 27V; Schedule B: 8541100050, 8541100050|8541100050|8541100050|8541100050|8541100050; Voltage Tolerance: 5%; Working Voltage: 27V; Zener Current: 50mA; Zener Voltage: 27V; ComponentLink1URL: https://datasheet.octopart.com:443/SMBJ5361B-TP-MCC-datasheet-179878967.pdf?src-supplier=element14+APAC; ComponentLink1Description: https://datasheet.octopart.com:443/SMBJ5361B-TP-MCC-datasheet-179878967.pdf?src-supplier=element14+APAC; ComponentLink2URL: https://datasheet.octopart.com:443/SMBJ5361B-TP-MCC-datasheet-133521239.pdf?src-supplier=Future+Electronics; ComponentLink2Description: https://datasheet.octopart.com:443/SMBJ5361B-TP-MCC-datasheet-133521239.pdf?src-supplier=Future+Electronics; ComponentLink3URL: https://datasheet.octopart.com:443/SMBJ5361B-TP-MCC-datasheet-13563501.pdf?src-supplier=HQonline; ComponentLink3Description: https://datasheet.octopart.com:443/SMBJ5361B-TP-MCC-datasheet-13563501.pdf?src-supplier=HQonline; ComponentLink4URL: https://datasheet.octopart.com:443/SMBJ5361B-TP-MCC-datasheet-12511215.pdf?src-supplier=Factory+Futures; ComponentLink4Description: https://datasheet.octopart.com:443/SMBJ5361B-TP-MCC-datasheet-12511215.pdf?src-supplier=Factory+Futures; ComponentLink5URL: https://datasheet.octopart.com:443/SMBJ5361B-TP-MCC-datasheet-11551749.pdf?src-supplier=Arrow+Electronics; ComponentLink5Description: https://datasheet.octopart.com:443/SMBJ5361B-TP-MCC-datasheet-11551749.pdf?src-supplier=Arrow+Electronics; LCSC Part No: C3730541
footprint 27V Zener diode
pins: 1 C, 2 A